# Altium footprint library USB接口.PcbLib: 5 footprints
Each footprint in its own frame and in the unit in brackets; x right, y up, seen from the top. Pads: shape width x height; smd on the part's side, far side on the other; paste and mask are expansions set on the pad; w line width, h text height; cw(c..) or ccw(c..) is an arc to the next point about the centre after c.
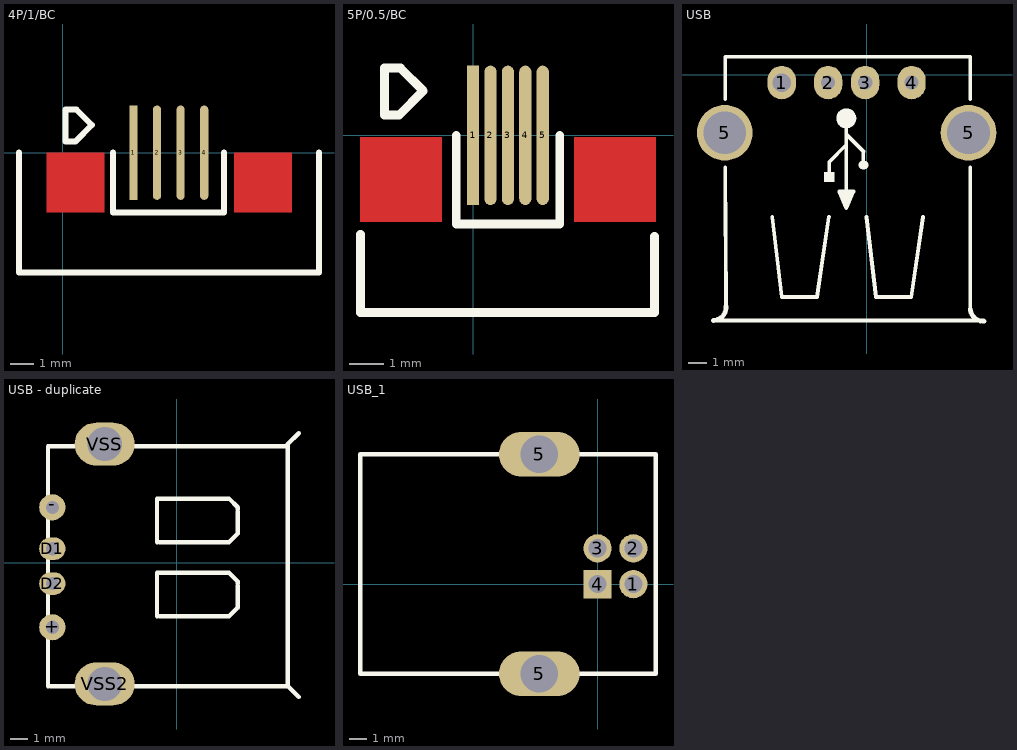
[diagram p0: the footprints below, top view; thin cyan lines are the x and y axes]

## 4P/1/BC [mm]
pads (4):
  rect 0.35x4 smd: 1(3,0)
  oval 0.35x4 smd: 2(4,0) 3(5,0) 4(6,0)
Top Layer:
  region: 9.728,0 7.264,0 7.264,-2.54 9.728,-2.54
  region: 1.778,0 -0.686,0 -0.686,-2.54 1.778,-2.54
Top Overlay:
  lines w0.254: -1.854,0 -1.854,-5.08 10.871,-5.08 10.871,0 ; 0.127,1.767 0.127,1.829 ; 2.134,0 2.134,-2.54 6.833,-2.54 6.833,0 ; 0.127,1.829 0.584,1.829 1.239,1.174 0.548,0.483 0.127,0.483 0.127,1.829
Top Solder:
  region: 9.728,0 7.264,0 7.264,-2.54 9.728,-2.54
  region: 1.778,0 -0.686,0 -0.686,-2.54 1.778,-2.54

## 5P/0.5/BC [mm]
pads (5):
  rect 0.35x4 smd: 1(0,0)
  oval 0.35x4 smd: 2(0.5,0) 3(1,0) 4(1.5,0) 5(2,0)
Top Layer:
  region: 5.258,-0.051 2.896,-0.051 2.896,-2.489 5.258,-2.489
  region: -0.889,-0.051 -3.251,-0.051 -3.251,-2.489 -0.889,-2.489
Top Overlay:
  lines w0.254: -3.226,-2.845 -3.226,-5.08 5.207,-5.08 5.207,-2.896 ; -2.54,1.869 -2.54,1.93 ; -0.483,0 -0.483,-2.54 2.489,-2.54 2.489,0 ; -2.54,1.93 -2.083,1.93 -1.428,1.275 -2.119,0.584 -2.54,0.584 -2.54,1.93
Top Solder:
  region: 5.309,0 2.845,0 2.845,-2.54 5.309,-2.54
  region: -0.838,0 -3.302,0 -3.302,-2.54 -0.838,-2.54

## USB [mil]
pads (6):
  oval 60x70.87 hole 39.37: 1(-180,-17)
  oval 60x70.87 hole 30: 2(-81.58,-17) 3(-2.83,-17) 4(95.59,-17)
  round 118.11 hole 90.55: 5(-300.87,-123.69) 5(216.46,-123.69)
Top Overlay:
  circle w20: c-43,-93 r11.18
  rectangle: -90,-228 -68,-207
  lines w8: -325,-522 248.19,-522 ; -300,-197 -298.19,-492 ; -300,-52 -300,38 220,38 220,-52 ; -200,-302 -180,-472 -105,-472 -80,-302 ; -79,-208 -79,-185 -43,-149 ; -43,-168 -43,-167 ; -43,-93 -43,-283 ; -42.73,-127.27 -6.73,-163.27 ; -7,-183 -7,-164 ; 0,-302 20,-472 95,-472 120,-302 ; 220,-497 220,-197 ; -43,-283 -58,-248 -28,-248 -43,-283
  lines w10: -325,-522 ccw(c-326.6,-493.59) -298.19,-492 ; 220,-497 ccw(c248.41,-495.41) 250,-523.81
  lines w20: -43,-268 -43,-253 ; -7,-192 -6,-192

## USB - duplicate [mm]
pads (6):
  round 1.524 hole 0.762: +(-7.255,-3.757) -(-7.255,3.228)
  oval 1.524x1.324 hole 0.762: D1(-7.255,0.815) D2(-7.255,-1.217)
  oval 3.5x2.5 hole 2: VSS(-4.207,6.911) VSS2(-4.207,-7.059)
Top Overlay:
  lines w0.254: -7.509,-7.186 -7.509,6.784 6.461,6.784 ; -7.382,-7.186 6.461,-7.186 ; -1.159,-3.122 -1.159,-0.582 3.032,-0.582 3.54,-1.09 3.54,-1.217 ; -1.159,1.196 -1.159,3.736 3.032,3.736 3.54,3.228 3.54,3.101 ; -1.032,-3.122 3.032,-3.122 3.54,-2.614 3.54,-1.344 ; -1.032,1.196 3.032,1.196 3.54,1.704 3.54,2.974 ; 7.096,-7.821 6.461,-7.186 ; 7.096,7.546 6.461,6.911 6.461,6.784 ; 6.461,-7.186 6.461,6.784

## USB_1 [mm]
pads (6):
  round 1.575 hole 1.016: 1(2,0) 2(2,2) 3(0,2)
  rect 1.575x1.575 hole 1.016: 4(0,0)
  oval 4.5x2.5 hole 2.1: 5(-3.25,-5) 5(-3.25,7.25)
Top Overlay:
  lines w0.254: -13.25,-5 3.25,-5 3.25,7.25 -13.25,7.25 -13.25,-5